# Altium schematic symbol library INA212-Q1.SchLib: 1 symbol
Pins are listed as number, name and electrical type; pins without a type are passive.

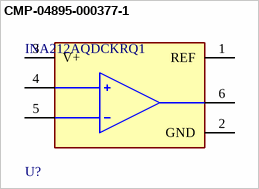
[diagram p0: symbol CMP-04895-000377-1]

## CMP-04895-000377-1
designator U?, comment INA212AQDCKRQ1
IC CURR SENSE 1 CIRCUIT SC70-6; Gain Bandwidth Product: 4kHz; Operating Supply Current: 65uA; Accuracy: 1%; Input Bias Current: 28uA; Slew Rate: 0.4V/µs; Input Offset Voltage (Vos): 0.55uV; Number of Circuits: 1; Mount: Surface Mount; RoHS Compliant: Yes; Max Operating Temperature: 125°C; Number of Pins: 6; Packaging: Tape and Reel; Lead Free: Lead Free; Radiation Hardening: No; Package Quantity: 3000; Min Operating Temperature: -40°C
footprint FP-DCK0006A-IPC_A
footprint FP-DCK0006A-MFG
footprint FP-DCK0006A-IPC_B
footprint FP-DCK0006A-IPC_C
pins: 1 REF (power), 2 GND (power), 3 V+ (power), 4 IN+ (hiz), 5 IN- (hiz), 6 OUT